# EAGLE library part LCD2.4-ILI9341V-SPI (library X893)
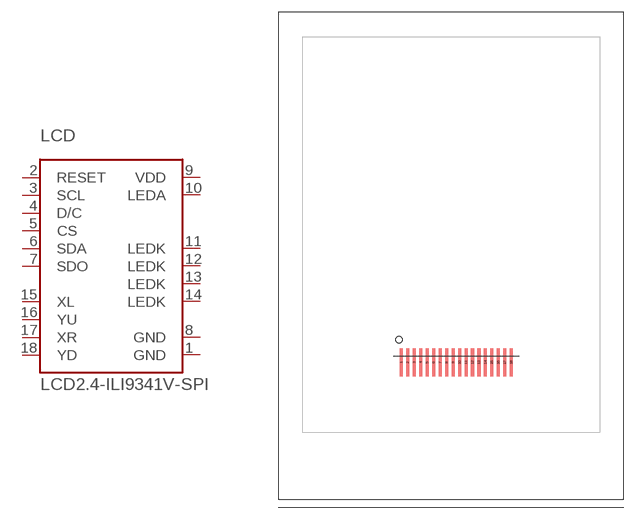
[diagram p239: symbol with the pads of LCD2.4-ILI9341V-SPI; footprint LCD2.4-ILI9341V-SPI]

Designator prefix LCD

## LCD2.4-ILI9341V-SPI  [LCD2.4-ILI9341V-SPI]
1  GND  pwr
2  RESET  in
3  SCL  in
4  D/C  in
5  CS  in
6  SDA  in
7  SDO  out
8  GND  pwr
9  VDD  pwr
10  LEDA  pas
11  LEDK  pas
12  LEDK  pas
13  LEDK  pas
14  LEDK  pas
15  XL  pas
16  YU  pas
17  XR  pas
18  YD  pas

## Footprint LCD2.4-ILI9341V-SPI (pad centres in mm)
smd 0.5 x 3.5: 1 -6.14,-13.2; 2 -5.34,-13.2; 3 -4.54,-13.2; 4 -3.74,-13.2; 5 -2.94,-13.2; 6 -2.14,-13.2; 7 -1.34,-13.2; 8 -0.54,-13.2; 9 0.26,-13.2; 10 1.06,-13.2; 11 1.86,-13.2; 12 2.66,-13.2; 13 3.46,-13.2; 14 4.26,-13.2; 15 5.06,-13.2; 16 5.86,-13.2; 17 6.66,-13.2; 18 7.46,-13.2